# Altium footprint library ds1013_08ssib1_b_0.PcbLib: 1 footprints
Each footprint in its own frame and in the unit in brackets; x right, y up, seen from the top. Pads: shape width x height; smd on the part's side, far side on the other; paste and mask are expansions set on the pad; w line width, h text height; cw(c..) or ccw(c..) is an arc to the next point about the centre after c.
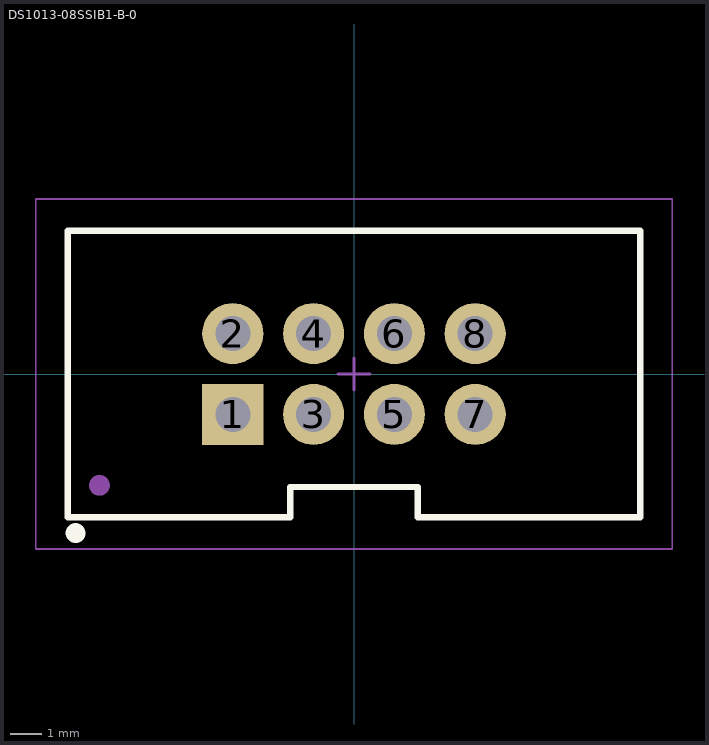
[diagram p0: the footprint, top view; thin cyan lines are the x and y axes]

## DS1013-08SSIB1-B-0 [mm] "BH 8 pins 2,54mm Plug Header V/T Type"
height 9
pads (8):
  rect 1.92x1.92 hole 1.1: 1(-3.81,-1.27)
  round 1.92 hole 1.1: 2(-3.81,1.27) 3(-1.27,-1.27) 4(-1.27,1.27) 5(1.27,-1.27) 6(1.27,1.27) 7(3.81,-1.27) 8(3.81,1.27)
Top Overlay:
  circle w0.6: c-8.75,-5 r0.01
  lines w0.2: -9,-4.5 -2,-4.5 -2,-3.55 2,-3.55 2,-4.5 9,-4.5 9,4.5 -9,4.5 -9,-4.5
Top Comment:
  text ".Comment" at 1,5.75 h1.2
Top Designator:
  text ".Designator" at -0.5,5.75 h1.2
Top Component Outline:
  circle w0.35: c-8,-3.5 r0.15
  lines w0.1: -9,-4.5 -2,-4.5 -2,-3.55 2,-3.55 2,-4.5 9,-4.5 9,4.5 -9,4.5 -9,-4.5
Top Courtyard (Mech15):
  lines w0.05: -10,-5.5 10,-5.5 10,5.5 -10,5.5 -10,-5.5
  lines w0.1: -0.5,0 0.5,0 ; 0,-0.5 0,0.5
3D body "DS1013-8SSiB1-B-0.STEP": height 9, standoff -3.6, extent -8.98,-4.5 8.98,4.4